# Altium footprint library SOIC127P600X175-8N IRF.PcbLib: 1 footprints
Each footprint in its own frame and in the unit in brackets; x right, y up, seen from the top. Pads: shape width x height; smd on the part's side, far side on the other; paste and mask are expansions set on the pad; w line width, h text height; cw(c..) or ccw(c..) is an arc to the next point about the centre after c.
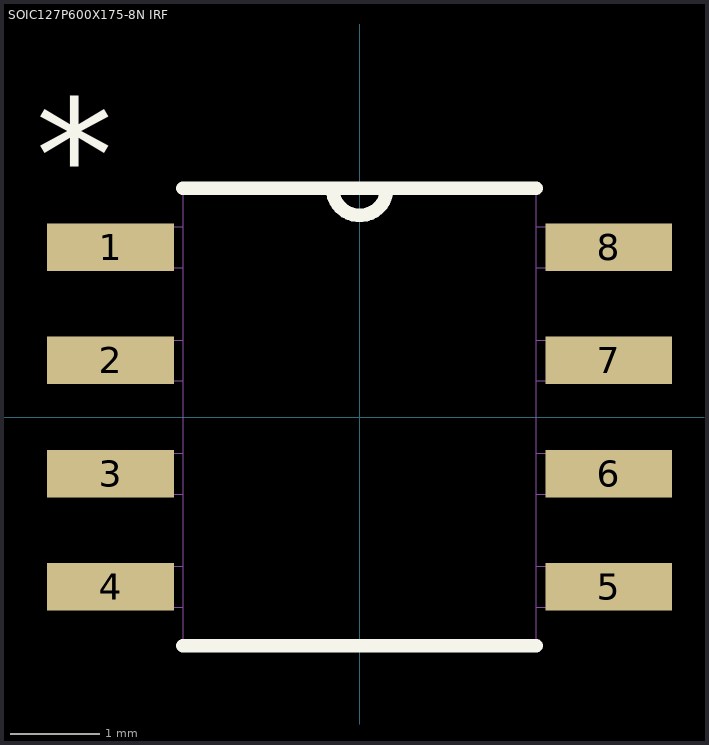
[diagram p0: the footprint, top view; thin cyan lines are the x and y axes]

## SOIC127P600X175-8N IRF [mil]
pads (8):
  rect 56x21 smd: 1(-110,75) 2(-110,25) 3(-110,-25) 4(-110,-75) 5(110,-75) 6(110,-25) 7(110,25) 8(110,75)
Top Overlay:
  lines w6: -78,-101 78,-101 ; -78,101 -12,101 ; 78,101 12,101 ; -12,101 ccw(c0,101) 12,101 ; -12,101 12,101
  text "*" at -143,91 h50
Assembly Top:
  lines w0: -12,101 ccw(c0,101) 12,101 ; -12,101 12,101 ; -12,101 -78,101 -78,-101 78,-101 78,101 12,101 ; -124,-84 -124,-66 -78,-66 -78,-84 -124,-84 ; -124,-34 -124,-16 -78,-16 -78,-34 -124,-34 ; -124,16 -124,34 -78,34 -78,16 -124,16 ; -124,66 -124,84 -78,84 -78,66 -124,66 ; 78,-84 78,-66 124,-66 124,-84 78,-84 ; 78,-34 78,-16 124,-16 124,-34 78,-34 ; 78,16 78,34 124,34 124,16 78,16 ; 78,66 78,84 124,84 124,66 78,66
  text "*" at -143,91 h50
3D body "step_temp.STEP": height 68.9, standoff 0, extent -118.11,-96.46 118.11,96.46